# Altium footprint library Relays.PcbLib: 22 footprints (part 2 of 2)
Each footprint in its own frame and in the unit in brackets; x right, y up, seen from the top. Pads: shape width x height; smd on the part's side, far side on the other; paste and mask are expansions set on the pad; w line width, h text height; cw(c..) or ccw(c..) is an arc to the next point about the centre after c.
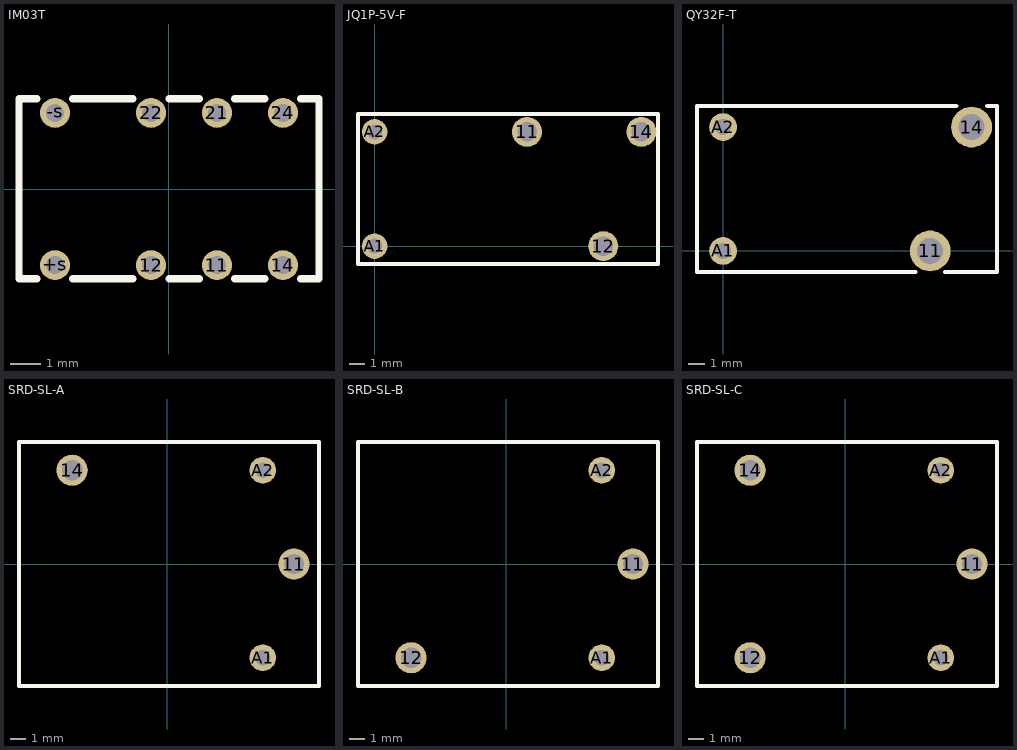
[diagram p1: the footprints below, top view; thin cyan lines are the x and y axes]

## IM03T [mm]
height 5.7
pads (8):
  round 1 hole 0.6: 11(1.6,-2.54) 12(-0.6,-2.54) 14(3.8,-2.54) 21(1.6,2.54) 22(-0.6,2.54) 24(3.8,2.54) +s(-3.8,-2.54) -s(-3.8,2.54)
Top Overlay:
  lines w0.25: -4.4,-3 -5,-3 -5,3 -4.4,3 ; -3.2,-3 -1.2,-3 ; -3.2,3 -1.2,3 ; 0,-3 1,-3 ; 0,3 1,3 ; 2.2,-3 3.2,-3 ; 2.2,3 3.2,3 ; 4.4,-3 5,-3 5,3 4.4,3
3D body: height 1, standoff -3, extent -0.8,-2.64 -0.4,-2.44
3D body: height 1, standoff -3, extent 1.4,-2.64 1.8,-2.44
3D body: height 1, standoff -3, extent 3.6,-2.64 4,-2.44
3D body: height 1, standoff -3, extent 3.6,2.44 4,2.64
3D body: height 1, standoff -3, extent 1.4,2.44 1.8,2.64
3D body: height 1, standoff -3, extent -0.8,2.54 -0.4,2.74
3D body: height 1, standoff -3, extent -4,2.44 -3.6,2.64
3D body: height 1, standoff -3, extent -4,-2.54 -3.6,-2.34
3D body: height 5.95, standoff 0.3, extent -5,-3 5,3

## JQ1P-5V-F [mm] "Power Relay 10A"
height 16
pads (5):
  round 2 hole 1.3: 11(10.16,7.62) 12(15.24,0) 14(17.78,7.62)
  round 1.7 hole 1: A1(0,0) A2(0,7.62)
Top Overlay:
  lines w0.25: -1.11,-1.19 -1.11,8.81 18.89,8.81 18.89,-1.19 -1.11,-1.19
3D body: height 16, standoff 0, extent -1.11,-1.19 18.89,8.81

## QY32F-T [mm] "Power Relay 16A"
height 15.5
pads (4):
  round 2.5 hole 1.6: 11(12.7,0) 14(15.24,7.6)
  round 1.7 hole 1: A1(0,0) A2(0,7.6)
Top Overlay:
  lines w0.25: 11.8,-1.3 -1.6,-1.3 -1.6,8.9 14.3,8.9 ; 13.6,-1.3 16.8,-1.3 16.8,8.9 16.2,8.9
3D body "HF32FV-T.stp": height 15.82, standoff -3.48, extent -1.6,-1.3 16.8,8.9

## SRD-SL-A [mm] "Power Relay 15A"
height 15.8
pads (4):
  round 2 hole 1.3: 11(8.1,0) 14(-6.1,6)
  round 1.7 hole 1: A1(6.1,-6) A2(6.1,6)
Top Overlay:
  lines w0.25: -9.5,-7.8 -9.5,7.8 9.7,7.8 9.7,-7.8 -9.5,-7.8
3D body: height 15.8, standoff 0, extent -9.5,-7.8 9.7,7.8
3D body: height 0, standoff -2.5, extent -6.6,5.5 -5.6,6.5
3D body: height 0, standoff -2.5, extent 7.6,-0.5 8.6,0.5
3D body: height 0, standoff -2.5, extent 5.8,5.7 6.4,6.3
3D body: height 0, standoff -2.5, extent 5.8,-6.3 6.4,-5.7

## SRD-SL-B [mm] "Power Relay 15A"
height 15.8
pads (4):
  round 2 hole 1.3: 11(8.1,0) 12(-6.1,-6)
  round 1.7 hole 1: A1(6.1,-6) A2(6.1,6)
Top Overlay:
  lines w0.25: -9.5,-7.8 9.7,-7.8 9.7,7.8 -9.5,7.8 -9.5,-7.8
3D body: height 15.8, standoff 0, extent -9.5,-7.8 9.7,7.8
3D body: height 0, standoff -2.5, extent -6.6,-6.5 -5.6,-5.5
3D body: height 0, standoff -2.5, extent 5.8,-6.3 6.4,-5.7
3D body: height 0, standoff -2.5, extent 5.8,5.7 6.4,6.3
3D body: height 0, standoff -2.5, extent 7.6,-0.5 8.6,0.5

## SRD-SL-C [mm] "Power Relay 15A"
height 15.8
pads (5):
  round 2 hole 1.3: 11(8.1,0) 12(-6.1,-6) 14(-6.1,6)
  round 1.7 hole 1: A1(6.1,-6) A2(6.1,6)
Top Overlay:
  lines w0.25: -9.5,-7.8 9.7,-7.8 9.7,7.8 -9.5,7.8 -9.5,-7.8
3D body: height 15.8, standoff 0, extent -9.5,-7.8 9.7,7.8
3D body: height 0, standoff -2.5, extent 5.8,-6.3 6.4,-5.7
3D body: height 0, standoff -2.5, extent 5.8,5.7 6.4,6.3
3D body: height 0, standoff -2.5, extent 7.6,-0.5 8.6,0.5
3D body: height 0, standoff -2.5, extent -6.6,5.5 -5.6,6.5
3D body: height 0, standoff -2.5, extent -6.6,-6.5 -5.6,-5.5